# EAGLE library part DS1340Z (library marius)
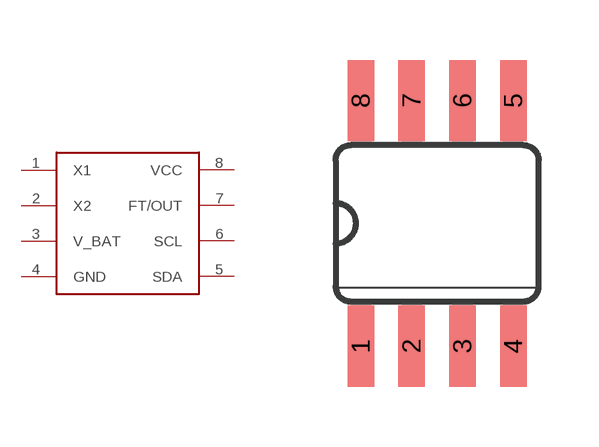
[diagram p6: symbol with the pads of SO08; footprint SO08]

Designator prefix -

## DS1340Z  [SO08]
1  X1
2  X2
3  V_BAT
4  GND
5  SDA
6  SCL
7  FT/OUT
8  VCC

## Footprint SO08 (pad centres in mm)
smd 0.66 x 2.032: 1 -1.905,-3.073; 2 -0.635,-3.073; 3 0.635,-3.073; 4 1.905,-3.073; 5 1.905,3.073; 6 0.635,3.073; 7 -0.635,3.073; 8 -1.905,3.073